# Altium schematic symbol library wol.SchLib: 12 symbols
Pins are listed as number, name and electrical type; pins without a type are passive.

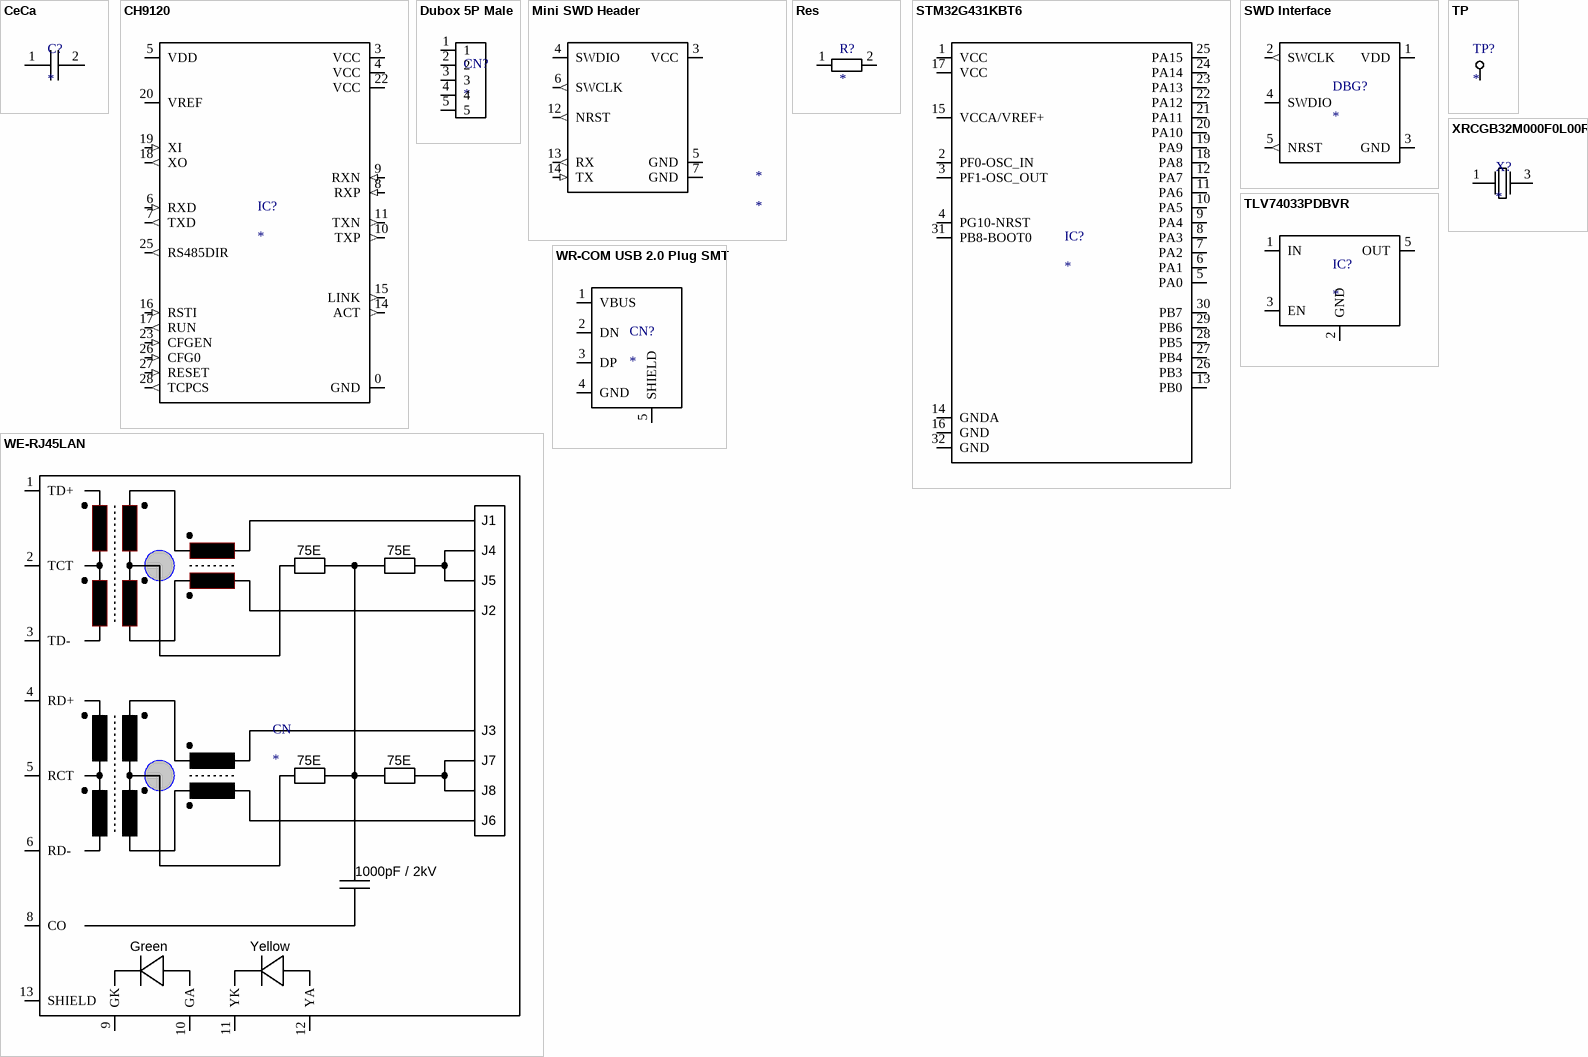
[diagram p0: symbols CeCa to XRCGB32M000F0L00R0]

## CeCa
designator C?
footprint C_0402
pins: 1, 2

## CH9120
designator IC?
Network and UART Transparent Transmission Chip; ComponentLink1Description: Datasheet; ComponentLink1URL: http://www.wch-ic.com/downloads/file/317.html?time=2022-08-22%2013:41:33&code=5fVJkrWqOqsN9oFySIYUkoTgQwx098RKZyXylZKH
footprint QFN28
pins: 0 GND (power), 3 VCC (power), 4 VCC (power), 5 VDD (power), 6 RXD (in), 7 TXD (out), 8 RXP (in), 9 RXN (in), 10 TXP (out), 11 TXN (out), 14 ACT (out), 15 LINK (out), 16 RSTI (in), 17 RUN (out), 18 XO (out), 19 XI (in), 20 VREF (power), 22 VCC (power), 23 CFGEN (in), 25 RS485DIR (out), 26 CFG0 (in), 27 RESET (in), 28 TCPCS (out)

## Dubox 5P Male
designator CN?
Headers & Wire Housings 5P VERT SR HDR AU; ComponentLink1Description: Datasheet; ComponentLink1URL: https://cdn.amphenol-cs.com/media/wysiwyg/files/documentation/datasheet/boardwiretoboard/bwb_dubox_shunts.pdf
footprint Dubox 5p Male
pins: 1, 2, 3, 4, 5

## Mini SWD Header
designator *
Manufacturer Nr.: 3220-14-0300-00
footprint Mini SWD Header
pins: 3 VCC (power), 4 SWDIO (io), 5 GND (power), 6 SWCLK (out), 7 GND (power), 12 NRST (out), 13 RX (out), 14 TX (in)

## Res
designator R?
footprint R_0402
pins: 1, 2

## STM32G431KBT6
designator IC?
ARM Microcontrollers - MCU Mainstream Arm Cortex-M4 MCU 170 MHz 128 Kbytes of Flash Math Accel, Medium Anal; ComponentLink1Description: Datasheet; ComponentLink1URL: https://www.st.com/resource/en/datasheet/stm32g431kb.pdf
footprint LQFP32
pins: 1 VCC (power), 2 PF0-OSC_IN (io), 3 PF1-OSC_OUT (io), 4 PG10-NRST (io), 5 PA0 (io), 6 PA1 (io), 7 PA2 (io), 8 PA3 (io), 9 PA4 (io), 10 PA5 (io), 11 PA6 (io), 12 PA7 (io), 13 PB0 (io), 14 GNDA (power), 15 VCCA/VREF+ (power), 16 GND (power), 17 VCC (power), 18 PA8 (io), 19 PA9 (io), 20 PA10 (io), 21 PA11 (io), 22 PA12 (io), 23 PA13 (io), 24 PA14 (io), 25 PA15 (io), 26 PB3 (io), 27 PB4 (io), 28 PB5 (io), 29 PB6 (io), 30 PB7 (io), 31 PB8-BOOT0 (io), 32 GND (power)

## SWD Interface
designator DBG?
footprint SWD Interface Host
footprint SWD Interface Target
pins: 1 VDD (power), 2 SWCLK (out), 3 GND (power), 4 SWDIO (io), 5 NRST (out)

## TLV74033PDBVR
designator IC?
Linear Voltage Regulator IC Positive Fixed 1 Output 300mA SOT-23-5; ComponentLink1Description: Datasheet; ComponentLink1URL: https://www.ti.com/lit/ds/symlink/tlv740p.pdf?ts=1680939934820
footprint SOT-23
pins: 1 IN, 2 GND, 3 EN, 5 OUT

## TP
designator TP?
footprint STP_0.5mm
footprint STP_1mm
footprint TTP_0.5mm
footprint TTP_1mm
pins: 1

## WE-RJ45LAN
designator CN
Modulare Steckverbinder / Ethernet-Steckverbinder WE-RJ45 Intgtd XFMR 1x1 THT Tab Up; ComponentLink1Description: Datasheet; ComponentLink1URL: https://www.we-online.com/components/products/datasheet/7499010121A.pdf
footprint 7499010121A
pins: 1 TD+, 2 TCT, 3 TD-, 4 RD+, 5 RCT, 6 RD-, 8 CO, 9 GK, 10 GA, 11 YK, 12 YA, 13 SHIELD
text: J1; 75E; J4; J5; J2; J3; J7; J8; J6; 1000pF / 2kV; Green; Yellow

## WR-COM USB 2.0 Plug SMT
designator CN?
CONN PLUG USB2.0 TYPEA 4P SMD RA; ComponentLink1Description: Datasheet; ComponentLink1URL: https://www.we-online.com/components/products/datasheet/629004113921.pdf
footprint 629004113921
pins: 1 VBUS (power), 2 DN (io), 3 DP (io), 4 GND (power), 5 SHIELD (power)

## XRCGB32M000F0L00R0
designator X?
ComponentLink1Description: Datasheet; ComponentLink1URL: https://www.murata.com/products/productdata/8801079099422/SPEC-XRCGB32M000F0L00R0.pdf?1541043011000
footprint HCR2016
pins: 1, 3